# Altium footprint library BUCK.PcbLib: 2 footprints
Each footprint in its own frame and in the unit in brackets; x right, y up, seen from the top. Pads: shape width x height; smd on the part's side, far side on the other; paste and mask are expansions set on the pad; w line width, h text height; cw(c..) or ccw(c..) is an arc to the next point about the centre after c.
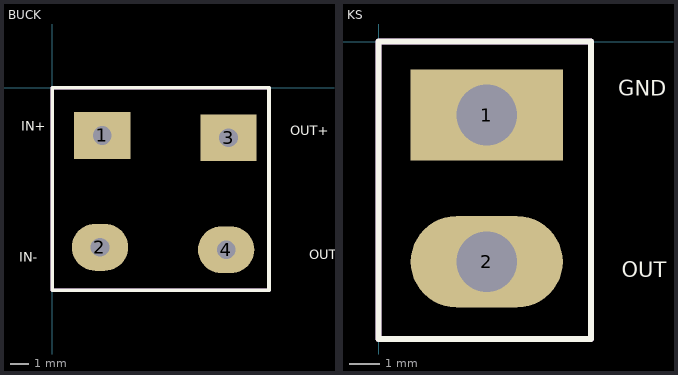
[diagram p0: the footprints below, top view; thin cyan lines are the x and y axes]

## BUCK [mm]
pads (4):
  rect 3x2.5 hole 1: 1(2.667,-2.54) 3(9.398,-2.667)
  oval 3x2.5 hole 1: 2(2.54,-8.509) 4(9.271,-8.636)
Top Overlay:
  lines w0.2: 0,-10.795 0,0 11.557,0 11.557,-10.795 0,-10.795
  text "IN+" at -1.651,-2.286 h0.51
  text "IN-" at -1.778,-9.271 h0.51
  text "OUT+" at 12.7,-2.54 h0.51
  text "OUT-" at 13.716,-9.144 h0.51
Mechanical 1:
  lines w0.2: 0,-10.795 0,0 11.557,0 11.557,-10.795 0,-10.795
  text ".Designator" at 5.461,-5.503 h1.02

## KS [mm]
pads (2):
  rect 5x3 hole 2: 1(3.556,-2.413)
  oval 5x3 hole 2: 2(3.556,-7.239)
Top Overlay:
  lines w0.2: 0,-9.779 6.985,-9.779 6.985,0 0,0 0,-9.779
  text "GND" at 7.874,-1.778 h0.51
  text "OUT" at 8.001,-7.747 h0.51
Mechanical 1:
  lines w0.2: 0,-9.779 6.985,-9.779 6.985,0 0,0 0,-9.779
  text ".Designator" at 2.667,-5.249 h1.02